# EAGLE library part SCSIJUMPER (library rkcustom)
CONNECTOR single jumper conector ripped from: input/output 3 in 1 combo connector wide SCSI, 2.00 mm, power, right angle
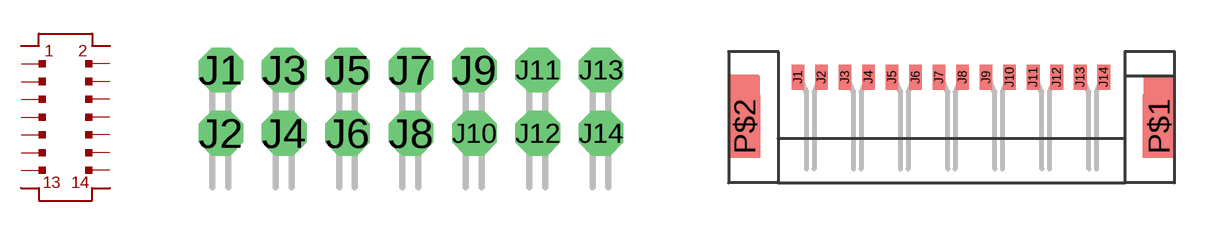
[diagram p5: symbol with the pads of 87360-SCSI-JUMPER; footprints 87360-SCSI-JUMPER, 87360-SCSI-JUMPER-SMTX]

Designator prefix X

## SCSIJUMPER  [87360-SCSI-JUMPER]
J1  J1  pas
J2  J2  pas
J3  J3  pas
J4  J4  pas
J5  J5  pas
J6  J6  pas
J7  J7  pas
J8  J8  pas
J9  J9  pas
J10  J10  pas
J11  J11  pas
J12  J12  pas
J13  J13  pas
J14  J14  pas

## SCSIJUMPER87360-SCSI-JUMPER-SMT  [87360-SCSI-JUMPER-SMTX]
Pads as for 87360-SCSI-JUMPER

## Footprint 87360-SCSI-JUMPER (pad centres in mm)
CONNECTOR input/output 3 in 1 combo connector wide SCSI, 2.00 mm, power, right angle
drill 0.9 octagon: J1 -6.215,1; J2 -6.215,-1; J3 -4.215,1; J4 -4.215,-1; J5 -2.215,1; J6 -2.215,-1; J7 -0.215,1; J8 -0.215,-1; J9 1.785,1; J10 1.785,-1; J11 3.785,1; J12 3.785,-1; J13 5.785,1; J14 5.785,-1

## Footprint 87360-SCSI-JUMPER-SMTX (pad centres in mm)
SMT
smd 0.508 x 1.016: J1 -6.565,4.175; J2 -5.615,4.175; J3 -4.665,4.175; J4 -3.715,4.175; J5 -2.765,4.175; J6 -1.815,4.175; J7 -0.865,4.175; J8 0.085,4.175; J9 1.035,4.175; J10 1.985,4.175; J11 2.935,4.175; J12 3.885,4.175; J13 4.835,4.175; J14 5.785,4.175
smd 1.27 x 2.54: P$1 8,2.187; P$2 -8.73,2.187